# EAGLE library part CCS811 (library AMS)
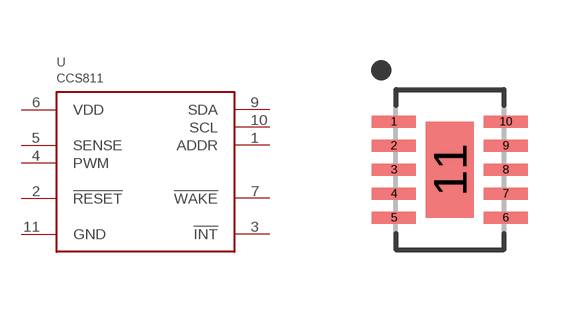
[diagram p0: symbol with the pads of LGA10; footprint LGA10]

Designator prefix U

## CCS811  [LGA10]
1  ADDR  in
2  !RESET  in
3  !INT  out
4  PWM
5  SENSE
6  VDD  pwr
7  !WAKE  in
9  SDA
10  SCL  in
11  GND  pwr

## Footprint LGA10 (pad centres in mm)
smd 1.1 x 0.3: 1 -1.4,1.2; 2 -1.4,0.6; 3 -1.4,0; 4 -1.4,-0.6; 5 -1.4,-1.2; 6 1.4,-1.2; 7 1.4,-0.6; 8 1.4,0; 9 1.4,0.6; 10 1.4,1.2
smd 1.2 x 2.4: 11 0,0